# Altium footprint library CONV_SDM30-12S5.PcbLib: 1 footprints
Each footprint in its own frame and in the unit in brackets; x right, y up, seen from the top. Pads: shape width x height; smd on the part's side, far side on the other; paste and mask are expansions set on the pad; w line width, h text height; cw(c..) or ccw(c..) is an arc to the next point about the centre after c.
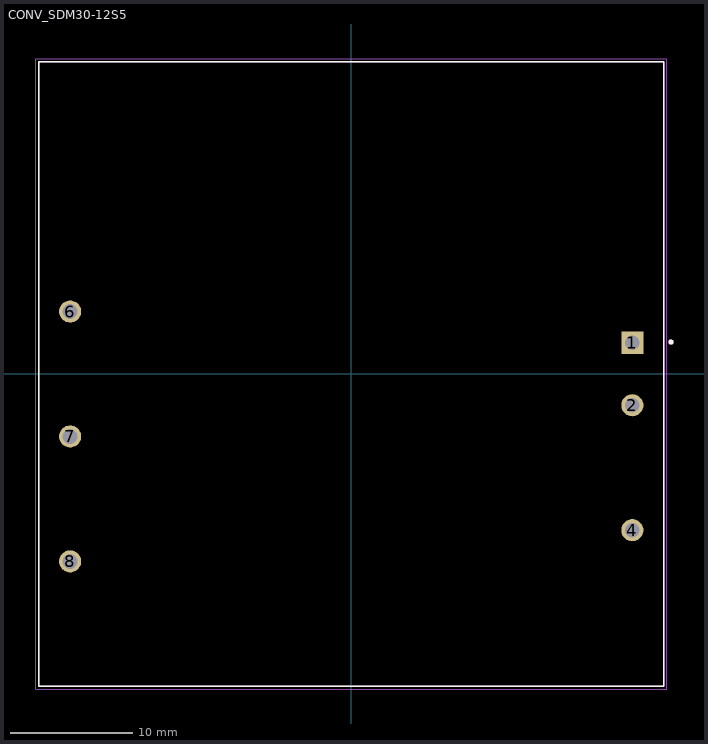
[diagram p0: the footprint, top view; thin cyan lines are the x and y axes]

## CONV_SDM30-12S5 [mm]
pads (6):
  rect 1.8x1.8 hole 1.2: 1(22.86,2.54)
  round 1.8 hole 1.2: 2(22.86,-2.54) 4(22.86,-12.7) 6(-22.86,5.08) 7(-22.86,-5.08) 8(-22.86,-15.24)
Top Overlay:
  circle w0.2: c26,2.6 r0.1
  lines w0.127: -25.4,-25.4 -25.4,25.4 25.4,25.4 25.4,-25.4 -25.4,-25.4
Mechanical 13:
  circle w0.2: c26,2.6 r0.1
  lines w0.127: -25.4,-25.4 -25.4,25.4 25.4,25.4 25.4,-25.4 -25.4,-25.4
Mechanical 15:
  lines w0.05: -25.65,-25.65 -25.65,25.65 25.65,25.65 25.65,-25.65 -25.65,-25.65
3D body: height 0, standoff 0, extent -22.86,5.08 -22.86,5.08
3D body: height 0, standoff 0, extent -22.86,-5.08 -22.86,-5.08
3D body: height 0, standoff 0, extent -22.86,-15.24 -22.86,-15.24
3D body: height 0, standoff 0, extent 22.86,-12.7 22.86,-12.7
3D body: height 0, standoff 0, extent 22.86,-2.54 22.86,-2.54
3D body: height 0, standoff 0, extent 22.922,2.508 22.922,2.508
3D body: height 16, standoff 0, extent -25.527,-25.4 25.4,25.4